# Altium footprint library SMT2220.PcbLib: 1 footprints
Each footprint in its own frame and in the unit in brackets; x right, y up, seen from the top. Pads: shape width x height; smd on the part's side, far side on the other; paste and mask are expansions set on the pad; w line width, h text height; cw(c..) or ccw(c..) is an arc to the next point about the centre after c.
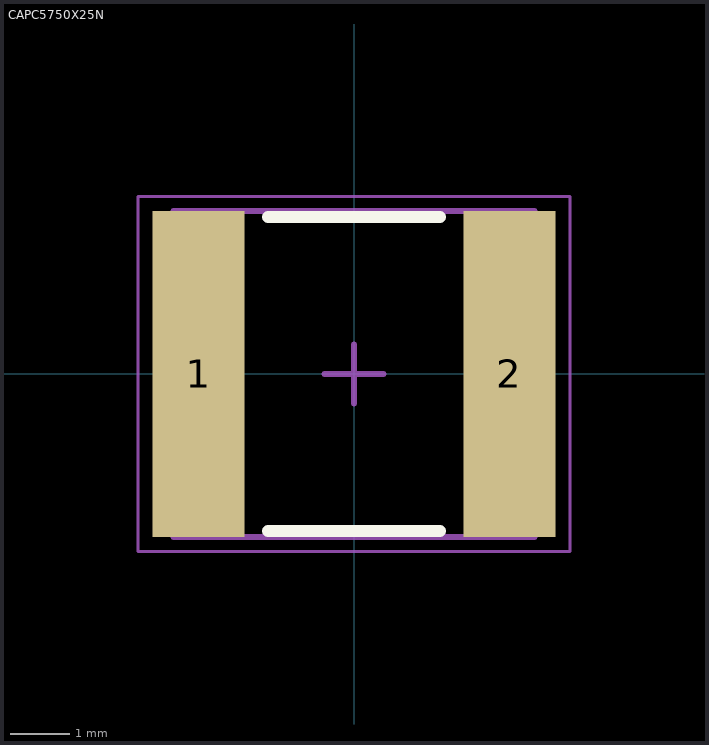
[diagram p0: the footprint, top view; thin cyan lines are the x and y axes]

## CAPC5750X25N [mm] "Chip Capacitor, 2-Leads, Body 5.70x5.00mm, IPC Medium Density"
height 2.5
pads (2):
  rect 1.55x5.5 smd: 1(-2.625,0) 2(2.625,0)
Top Overlay:
  lines w0.2: -1.45,-2.65 1.45,-2.65 ; -1.45,2.65 1.45,2.65
Mechanical 13:
  lines w0.1: -3.05,-2.75 -3.05,2.75 3.05,2.75 3.05,-2.75 -3.05,-2.75
Mechanical 15:
  lines w0.05: -3.65,-3 -3.65,3 3.65,3 3.65,-3 -3.65,-3
  lines w0.1: -0.5,0 0.5,0 ; 0,-0.5 0,0.5
3D body: height 2.5, standoff 0, extent -2.25,-2.75 2.25,2.75
3D body: height 2.5, standoff 0, extent -3.05,-2.75 -2.25,2.75
3D body: height 2.5, standoff 0, extent 2.25,-2.75 3.05,2.75